# Altium footprint library smd_2010.PcbLib: 1 footprints
Each footprint in its own frame and in the unit in brackets; x right, y up, seen from the top. Pads: shape width x height; smd on the part's side, far side on the other; paste and mask are expansions set on the pad; w line width, h text height; cw(c..) or ccw(c..) is an arc to the next point about the centre after c.
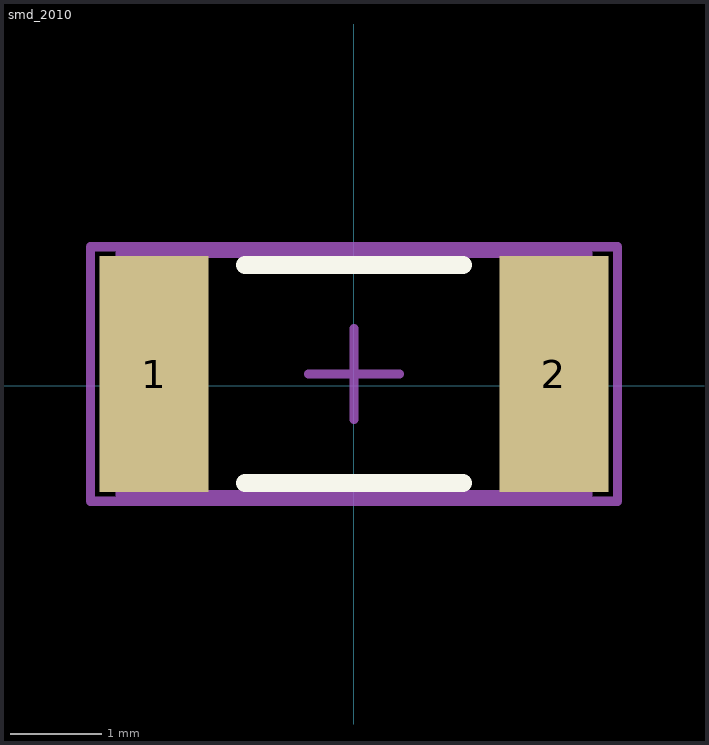
[diagram p0: the footprint, top view; thin cyan lines are the x and y axes]

## smd_2010 [mm]
pads (2):
  rect 1.2x2.6 smd: 1(-2.2,0.127) 2(2.2,0.127)
Top Overlay:
  lines w0.2: -1.2,-1.073 1.2,-1.073 ; -1.2,1.327 1.2,1.327
Mechanical 13:
  lines w0.1: -2.575,-1.198 2.575,-1.198 2.575,1.452 -2.575,1.452 -2.575,-1.198
Mechanical 15:
  lines w0.1: -0.5,0.127 0.5,0.127 ; 0,-0.373 0,0.627 ; -2.9,-1.273 2.9,-1.273 2.9,1.527 -2.9,1.527 -2.9,-1.273
3D body: height 0.9, standoff 0, extent -2.575,-1.198 2.575,1.452